# EAGLE library part LIS344AH (library 000001)
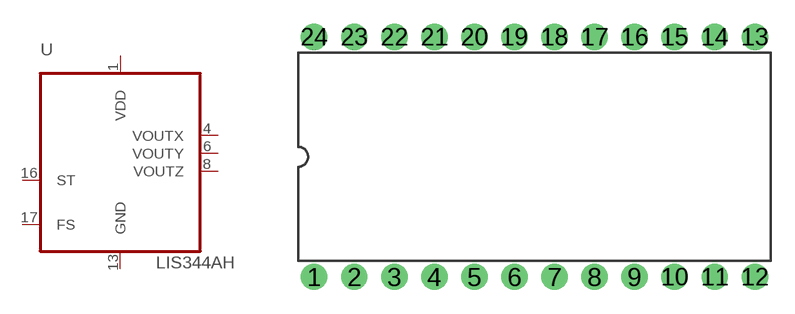
[diagram p126: symbol with the pads of DIL24-6; footprint DIL24-6]

Designator prefix -

## LIS344AHMKI015V1  [DIL24-6]
1  VDD  pwr
4  VOUTX  out
6  VOUTY  out
8  VOUTZ  out
13  GND  pwr
16  ST  in
17  FS  in

## Footprint DIL24-6 (pad centres in mm)
drill 0.5 pad 1.676 round: 1 -13.97,-7.62; 2 -11.43,-7.62; 3 -8.89,-7.62; 4 -6.35,-7.62; 5 -3.81,-7.62; 6 -1.27,-7.62; 7 1.27,-7.62; 8 3.81,-7.62; 9 6.35,-7.62; 10 8.89,-7.62; 11 11.43,-7.62; 12 13.97,-7.62; 13 13.97,7.62; 14 11.43,7.62; 15 8.89,7.62; 16 6.35,7.62; 17 3.81,7.62; 18 1.27,7.62; 19 -1.27,7.62; 20 -3.81,7.62; 21 -6.35,7.62; 22 -8.89,7.62; 23 -11.43,7.62; 24 -13.97,7.62